# Altium schematic symbol library P-Channel FET.SchLib: 63 symbols (part 1 of 2)
Pins are listed as number, name and electrical type; pins without a type are passive.

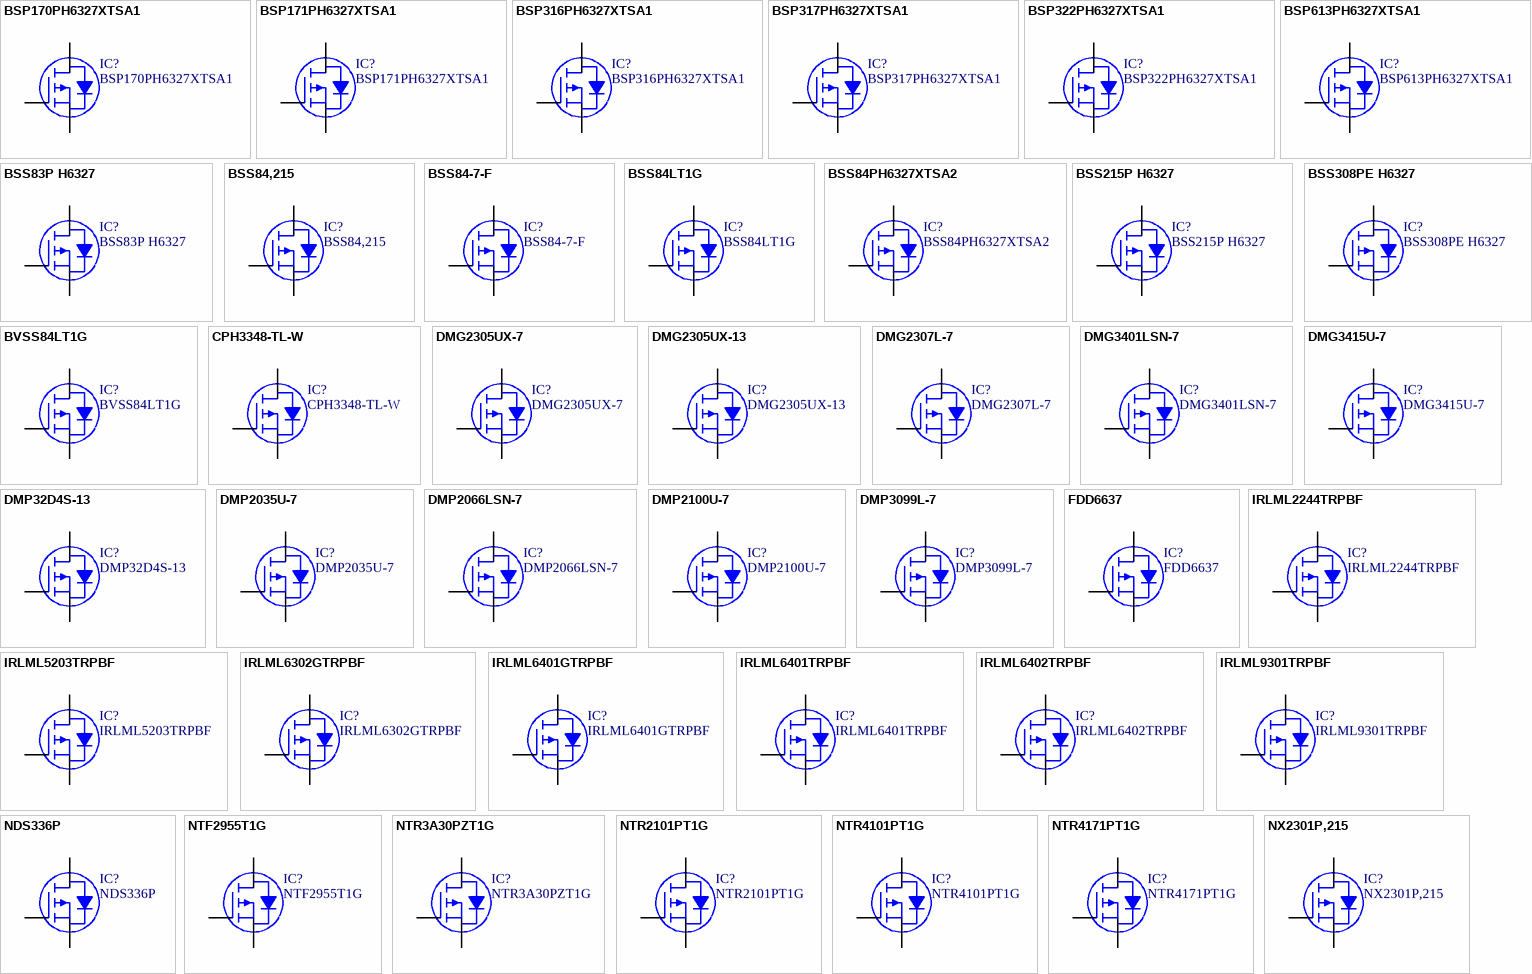
[diagram p0: symbols BSP170PH6327XTSA1 to NX2301P,215]

## BSP170PH6327XTSA1
designator IC?
MOSFET P-CH 60V 1.9A SOT223; Manufacturer: Infineon Technologies; Rds On (Max) at Id, Vgs: 300 mOhm @ 1.9A, 10V; Vgs(th) (Max) at Id: 4V @ 250uA; Gate Charge (Qg): 14nC @ 10V; Input Capacitance (Ciss) at Vds: 410pF @ 25V; Power - Max: 1.8W; Current Continuous Drain: 1.9A (Ta); Part Number: BSP170PH6327XTSA1; PartId: 8201; Supplier 1: Digi-Key; Supplier Part Number 1: BSP170PH6327XTSA1TR-ND; ComponentLink1Description: Datasheet; ComponentLink1URL: http://www.infineon.com/dgdl/Infineon-BSP170P-DS-v02_53-en.pdf?fileId=db3a30433b47825b013b5fdad470576f; ComponentLink2Description: Digi-Key Listing; ComponentLink2URL: http://www.digikey.com/product-detail/en/BSP170PH6327XTSA1/BSP170PH6327XTSA1TR-ND/5410105; Price: 0.2648; Type: MOSFET P-Channel, Metal Oxide; Device Package: TO-261-4, TO-261AA; Drain to Source Voltage (Vdss): 60V; Features: Standard
footprint INFINEON SOT-223
pins: 1 G, 2 D, 3 S, 4 D

## BSP171PH6327XTSA1
designator IC?
MOSFET P-CH 60V 1.9A SOT223; Manufacturer: Infineon Technologies; Rds On (Max) at Id, Vgs: 300 mOhm @ 1.9A, 10V; Vgs(th) (Max) at Id: 2V @ 460uA; Gate Charge (Qg): 20nC @ 10V; Input Capacitance (Ciss) at Vds: 460pF @ 25V; Power - Max: 1.8W; Current Continuous Drain: 1.9A (Ta); Part Number: BSP171PH6327XTSA1; PartId: 8200; Supplier 1: Digi-Key; Supplier Part Number 1: BSP171PH6327XTSA1TR-ND; ComponentLink1Description: Datasheet; ComponentLink1URL: http://www.infineon.com/dgdl/Infineon-BSP171P-DS-v02_07-en.pdf?fileId=db3a30433b47825b013b6004f59a57fa; ComponentLink2Description: Digi-Key Listing; ComponentLink2URL: http://www.digikey.com/product-detail/en/BSP171PH6327XTSA1/BSP171PH6327XTSA1TR-ND/5410106; Price: 0.2569; Type: MOSFET P-Channel, Metal Oxide; Device Package: TO-261-4, TO-261AA; Drain to Source Voltage (Vdss): 60V; Features: Logic Level Gate
footprint INFINEON SOT-223
pins: 1 G, 2 D, 3 S, 4 D

## BSP316PH6327XTSA1
designator IC?
MOSFET P-CH 100V 0.68A SOT223; Manufacturer: Infineon Technologies; Rds On (Max) at Id, Vgs: 1.8 Ohm @ 680mA, 10V; Vgs(th) (Max) at Id: 2V @ 170uA; Gate Charge (Qg): 6.4nC @ 10V; Input Capacitance (Ciss) at Vds: 146pF @ 25V; Power - Max: 1.8W; Current Continuous Drain: 680mA (Ta); Part Number: BSP316PH6327XTSA1; PartId: 8199; Supplier 1: Digi-Key; Supplier Part Number 1: BSP316PH6327XTSA1TR-ND; ComponentLink1Description: Datasheet; ComponentLink1URL: http://www.infineon.com/dgdl/Infineon-BSP316P-DS-v01_08-en.pdf?fileId=db3a30433b47825b013b603f524159c2; ComponentLink2Description: Digi-Key Listing; ComponentLink2URL: http://www.digikey.com/product-detail/en/BSP316PH6327XTSA1/BSP316PH6327XTSA1TR-ND/5410112; Price: 0.242; Type: MOSFET P-Channel, Metal Oxide; Device Package: TO-261-4, TO-261AA; Drain to Source Voltage (Vdss): 100V; Features: Logic Level Gate
footprint INFINEON SOT-223
pins: 1 G, 2 D, 3 S, 4 D

## BSP317PH6327XTSA1
designator IC?
MOSFET P-CH 250V 0.43A SOT223; Manufacturer: Infineon Technologies; Rds On (Max) at Id, Vgs: 4 Ohm @ 430mA, 10V; Vgs(th) (Max) at Id: 2V @ 370uA; Gate Charge (Qg): 15.1nC @ 10V; Input Capacitance (Ciss) at Vds: 262pF @ 25V; Power - Max: 1.8W; Current Continuous Drain: 430mA (Ta); Part Number: BSP317PH6327XTSA1; PartId: 8203; Supplier 1: Digi-Key; Supplier Part Number 1: BSP317PH6327XTSA1TR-ND; ComponentLink1Description: Datasheet; ComponentLink1URL: http://www.infineon.com/dgdl/Infineon-BSP317P-DS-v02_04-en.pdf?fileId=db3a30433b47825b013b604df1d959f2; ComponentLink2Description: Digi-Key Listing; ComponentLink2URL: http://www.digikey.com/product-detail/en/BSP317PH6327XTSA1/BSP317PH6327XTSA1TR-ND/5410113; Price: 0.2904; Type: MOSFET P-Channel, Metal Oxide; Device Package: TO-261-4, TO-261AA; Drain to Source Voltage (Vdss): 250V; Features: Logic Level Gate
footprint INFINEON SOT-223
pins: 1 G, 2 D, 3 S, 4 D

## BSP322PH6327XTSA1
designator IC?
MOSFET P-CH 100V 1A SOT-223; Manufacturer: Infineon Technologies; Rds On (Max) at Id, Vgs: 800 mOhm @ 1A, 10V; Vgs(th) (Max) at Id: 1V @ 380uA; Gate Charge (Qg): 16.5nC @ 10V; Input Capacitance (Ciss) at Vds: 372pF @ 25V; Power - Max: 1.8W; Current Continuous Drain: 1A (Tc); Part Number: BSP322PH6327XTSA1; PartId: 8202; Supplier 1: Digi-Key; Supplier Part Number 1: BSP322PH6327XTSA1TR-ND; ComponentLink1Description: Datasheet; ComponentLink1URL: http://www.infineon.com/dgdl/Infineon-BSP322P-DS-v01_06-en.pdf?fileId=db3a30433b47825b013b60a022246d9c; ComponentLink2Description: Digi-Key Listing; ComponentLink2URL: http://www.digikey.com/product-detail/en/BSP322PH6327XTSA1/BSP322PH6327XTSA1TR-ND/5410114; Price: 0.2881; Type: MOSFET P-Channel, Metal Oxide; Device Package: TO-261-4, TO-261AA; Drain to Source Voltage (Vdss): 100V; Features: Logic Level Gate
footprint INFINEON SOT-223
pins: 1 G, 2 D, 3 S, 4 D

## BSP613PH6327XTSA1
designator IC?
MOSFET P-CH 60V 2.9A SOT-223; Manufacturer: Infineon Technologies; Rds On (Max) at Id, Vgs: 130 mOhm @ 2.9A, 10V; Vgs(th) (Max) at Id: 4V @ 1mA; Gate Charge (Qg): 33nC @ 10V; Input Capacitance (Ciss) at Vds: 875pF @ 25V; Power - Max: 1.8W; Current Continuous Drain: 2.9A (Ta); Part Number: BSP613PH6327XTSA1; PartId: 8204; Supplier 1: Digi-Key; Supplier Part Number 1: BSP613PH6327XTSA1CT-ND; ComponentLink1Description: Datasheet; ComponentLink1URL: http://www.infineon.com/dgdl/Infineon-BSP613P-DS-v02_07-en.pdf?fileId=db3a30433b47825b013b60ac86a96dc0; ComponentLink2Description: Digi-Key Listing; ComponentLink2URL: http://www.digikey.com/product-detail/en/BSP613PH6327XTSA1/BSP613PH6327XTSA1CT-ND/5409996; Price: 0.99; Type: MOSFET P-Channel, Metal Oxide; Device Package: TO-261-4, TO-261AA; Drain to Source Voltage (Vdss): 60V; Features: Standard
footprint INFINEON SOT-223
pins: 1 G, 2 D, 3 S, 4 D

## BSS83P H6327
designator IC?
MOSFET P-CH 60V 0.33A SOT23; Manufacturer: Infineon Technologies; Rds On (Max) at Id, Vgs: 2 Ohm @ 330mA, 10V; Vgs(th) (Max) at Id: 2V @ 80uA; Gate Charge (Qg): 3.57nC @ 10V; Input Capacitance (Ciss) at Vds: 78pF @ 25V; Power - Max: 360mW; Current Continuous Drain: 330mA (Ta); Part Number: BSS83P H6327; PartId: 8162; Supplier 1: Digi-Key; Supplier Part Number 1: BSS83P H6327TR-ND; ComponentLink1Description: Datasheet; ComponentLink1URL: http://media.digikey.com/pdf/Data%20Sheets/Infineon%20PDFs/BSS83P%20H6327.pdf; ComponentLink2Description: Digi-Key Listing; ComponentLink2URL: http://www.digikey.com/product-detail/en/BSS83P%20H6327/BSS83P%20H6327TR-ND/2783473; Price: 0.062; Type: MOSFET P-Channel, Metal Oxide; Device Package: TO-236-3, SC-59, SOT-23-3; Drain to Source Voltage (Vdss): 60V; Features: Logic Level Gate
footprint INFINEON SOT-23-3
pins: 1 G, 2 D, 3 S

## BSS84,215
designator IC?
MOSFET P-CH 50V 130MA SOT-23; Manufacturer: NXP Semiconductors; Rds On (Max) at Id, Vgs: 10 Ohm @ 130mA, 10V; Vgs(th) (Max) at Id: 2V @ 1mA; Input Capacitance (Ciss) at Vds: 45pF @ 25V; Power - Max: 250mW; Current Continuous Drain: 130mA (Ta); Part Number: BSS84,215; PartId: 8178; Supplier 1: Digi-Key; Supplier Part Number 1: 568-1660-2-ND; ComponentLink1Description: Datasheet; ComponentLink1URL: http://www.nxp.com/documents/data_sheet/BSS84.pdf; ComponentLink2Description: Digi-Key Listing; ComponentLink2URL: http://www.digikey.com/product-detail/en/BSS84,215/568-1660-2-ND/763264; Price: 0.065; Type: MOSFET P-Channel, Metal Oxide; Device Package: TO-236-3, SC-59, SOT-23-3; Gate Charge (Qg): -; Drain to Source Voltage (Vdss): 50V; Features: Logic Level Gate
footprint NXP SOT-23-3 TO-236AB
pins: 1 G, 2 D, 3 S

## BSS84-7-F
designator IC?
MOSFET P-CH 50V 130MA SOT23-3; Manufacturer: Diodes Incorporated; Rds On (Max) at Id, Vgs: 10 Ohm @ 100mA, 5V; Vgs(th) (Max) at Id: 2V @ 1mA; Input Capacitance (Ciss) at Vds: 45pF @ 25V; Power - Max: 300mW; Current Continuous Drain: 130mA (Ta); Part Number: BSS84-7-F; PartId: 8183; Supplier 1: Digi-Key; Supplier Part Number 1: BSS84-FDITR-ND; ComponentLink1Description: Datasheet; ComponentLink1URL: http://www.diodes.com/_files/datasheets/ds30149.pdf; ComponentLink2Description: Digi-Key Listing; ComponentLink2URL: http://www.digikey.com/product-detail/en/BSS84-7-F/BSS84-FDITR-ND/717724; Price: 0.0632; Type: MOSFET P-Channel, Metal Oxide; Device Package: TO-236-3, SC-59, SOT-23-3; Gate Charge (Qg): -; Drain to Source Voltage (Vdss): 50V; Features: Standard
footprint DIODES SOT-23-3
pins: 1 G, 2 D, 3 S

## BSS84LT1G
designator IC?
MOSFET P-CH 50V 130MA SOT-23; Manufacturer: ON Semiconductor; Rds On (Max) at Id, Vgs: 10 Ohm @ 100mA, 5V; Vgs(th) (Max) at Id: 2V @ 250uA; Input Capacitance (Ciss) at Vds: 30pF @ 5V; Power - Max: 225mW; Current Continuous Drain: 130mA (Ta); Part Number: BSS84LT1G; PartId: 8197; Supplier 1: Digi-Key; Supplier Part Number 1: BSS84LT1GOSTR-ND; ComponentLink1Description: Datasheet; ComponentLink1URL: http://www.onsemi.com/pub_link/Collateral/BSS84LT1-D.PDF; ComponentLink2Description: Digi-Key Listing; ComponentLink2URL: http://www.digikey.com/product-detail/en/BSS84LT1G/BSS84LT1GOSTR-ND/918377; Price: 0.0586; Type: MOSFET P-Channel, Metal Oxide; Device Package: TO-236-3, SC-59, SOT-23-3; Gate Charge (Qg): -; Drain to Source Voltage (Vdss): 50V; Features: Standard
footprint ON SEMI SOT-23-3
pins: 1 G, 2 D, 3 S

## BSS84PH6327XTSA2
designator IC?
MOSFET P-CH 60V 170MA SOT-23; Manufacturer: Infineon Technologies; Rds On (Max) at Id, Vgs: 8 Ohm @ 170mA, 10V; Vgs(th) (Max) at Id: 2V @ 20uA; Gate Charge (Qg): 1.5nC @ 10V; Input Capacitance (Ciss) at Vds: 19pF @ 25V; Power - Max: 360mW; Current Continuous Drain: 170mA (Ta); Part Number: BSS84PH6327XTSA2; PartId: 8161; Supplier 1: Digi-Key; Supplier Part Number 1: BSS84PH6327XTSA2TR-ND; ComponentLink1Description: Datasheet; ComponentLink1URL: http://www.infineon.com/dgdl/Infineon-BSS84P-DS-v02_07-en.pdf?fileId=db3a304330f68606013118ac7a9b4549; ComponentLink2Description: Digi-Key Listing; ComponentLink2URL: http://www.digikey.com/product-detail/en/BSS84PH6327XTSA2/BSS84PH6327XTSA2TR-ND/5413661; Price: 0.042; Type: MOSFET P-Channel, Metal Oxide; Device Package: TO-236-3, SC-59, SOT-23-3; Drain to Source Voltage (Vdss): 60V; Features: Logic Level Gate
footprint INFINEON SOT-23-3
pins: 1 G, 2 D, 3 S

## BSS215P H6327
designator IC?
MOSFET P-CH 20V 1.5A SOT23; Manufacturer: Infineon Technologies; Rds On (Max) at Id, Vgs: 150 mOhm @ 1.5A, 4.5V; Vgs(th) (Max) at Id: 600mV @ 11uA; Gate Charge (Qg): 3.6nC @ 4.5V; Input Capacitance (Ciss) at Vds: 346pF @ 15V; Power - Max: 500mW; Current Continuous Drain: 1.5A (Ta); Part Number: BSS215P H6327; PartId: 8169; Supplier 1: Digi-Key; Supplier Part Number 1: BSS215P H6327TR-ND; ComponentLink1Description: Datasheet; ComponentLink1URL: http://www.infineon.com/dgdl/BSS215P_Rev2.3.pdf?folderId=db3a304314dca38901154a72e3951a65&fileId=db3a304330f6860601311833f57144fb; ComponentLink2Description: Digi-Key Listing; ComponentLink2URL: http://www.digikey.com/product-detail/en/BSS215P%20H6327/BSS215P%20H6327TR-ND/2783464; Price: 0.0838; Type: MOSFET P-Channel, Metal Oxide; Device Package: TO-236-3, SC-59, SOT-23-3; Drain to Source Voltage (Vdss): 20V; Features: Logic Level Gate, 2.5V Drive
footprint INFINEON SOT-23-3
pins: 1 G, 2 D, 3 S

## BSS308PE H6327
designator IC?
MOSFET P-CH 30V 2A SOT23; Manufacturer: Infineon Technologies; Rds On (Max) at Id, Vgs: 80 mOhm @ 2A, 10V; Vgs(th) (Max) at Id: 1V @ 11uA; Gate Charge (Qg): 5nC @ 10V; Input Capacitance (Ciss) at Vds: 500pF @ 15V; Power - Max: 500mW; Current Continuous Drain: 2A (Ta); Part Number: BSS308PE H6327; PartId: 8163; Supplier 1: Digi-Key; Supplier Part Number 1: BSS308PE H6327TR-ND; ComponentLink1Description: Datasheet; ComponentLink1URL: http://www.infineon.com/dgdl/BSS308PE_Rev2.03.pdf?folderId=db3a304314dca38901154a72e3951a65&fileId=db3a304330f686060131099c80400073; ComponentLink2Description: Digi-Key Listing; ComponentLink2URL: http://www.digikey.com/product-detail/en/BSS308PE%20H6327/BSS308PE%20H6327TR-ND/2783466; Price: 0.0819; Type: MOSFET P-Channel, Metal Oxide; Device Package: TO-236-3, SC-59, SOT-23-3; Drain to Source Voltage (Vdss): 30V; Features: Logic Level Gate, 4.5V Drive
footprint INFINEON SOT-23-3
pins: 1 G, 2 D, 3 S

## BVSS84LT1G
designator IC?
MOSFET P-CH 50V 130MA SOT-23-3; Manufacturer: ON Semiconductor; Rds On (Max) at Id, Vgs: 10 Ohm @ 100mA, 5V; Vgs(th) (Max) at Id: 2V @ 250uA; Gate Charge (Qg): 2.2nC @ 10V; Input Capacitance (Ciss) at Vds: 36pF @ 5V; Power - Max: 225mW; Current Continuous Drain: 130mA (Ta); Part Number: BVSS84LT1G; PartId: 8198; Supplier 1: Digi-Key; Supplier Part Number 1: BVSS84LT1GOSTR-ND; ComponentLink1Description: Datasheet; ComponentLink1URL: http://www.onsemi.com/pub_link/Collateral/BSS84LT1-D.PDF; ComponentLink2Description: Digi-Key Listing; ComponentLink2URL: http://www.digikey.com/product-detail/en/BVSS84LT1G/BVSS84LT1GOSTR-ND/3062044; Price: 0.0674; Type: MOSFET P-Channel, Metal Oxide; Device Package: TO-236-3, SC-59, SOT-23-3; Drain to Source Voltage (Vdss): 50V; Features: Standard
footprint ON SEMI SOT-23-3
pins: 1 G, 2 D, 3 S

## CPH3348-TL-W
designator IC?
MOSFET P-CH 12V 3A CPH3; Manufacturer: ON Semiconductor; Rds On (Max) at Id, Vgs: 70 mOhm @ 1.5A, 4.5V; Vgs(th) (Max) at Id: 1.4V @ 1mA; Gate Charge (Qg): 5.6nC @ 4.5V; Input Capacitance (Ciss) at Vds: 405pF @ 6V; Power - Max: 1W; Current Continuous Drain: 3A (Ta); Part Number: CPH3348-TL-W; PartId: 8194; Supplier 1: Digi-Key; Supplier Part Number 1: CPH3348-TL-WOSTR-ND; ComponentLink1Description: Datasheet; ComponentLink1URL: http://www.onsemi.com/pub_link/Collateral/CPH3348-D.PDF; ComponentLink2Description: Digi-Key Listing; ComponentLink2URL: http://www.digikey.com/product-detail/en/CPH3348-TL-W/CPH3348-TL-WOSTR-ND/5698149; Price: 0.1196; Type: MOSFET P-Channel, Metal Oxide; Device Package: TO-236-3, SC-59, SOT-23-3; Drain to Source Voltage (Vdss): 12V; Features: Logic Level Gate, 1.8V Drive
footprint ON SEMI SOT-23-3
pins: 1 G, 2 D, 3 S

## DMG2305UX-7
designator IC?
MOSFET P-CH 20V 4.2A SOT23; Manufacturer: Diodes Incorporated; Rds On (Max) at Id, Vgs: 52 mOhm @ 4.2A, 4.5V; Vgs(th) (Max) at Id: 900mV @ 250uA; Gate Charge (Qg): 10.2nC @ 4.5V; Input Capacitance (Ciss) at Vds: 808pF @ 15V; Power - Max: 1.4W; Current Continuous Drain: 4.2A (Ta); Part Number: DMG2305UX-7; PartId: 8184; Supplier 1: Digi-Key; Supplier Part Number 1: DMG2305UX-7DITR-ND; ComponentLink1Description: Datasheet; ComponentLink1URL: http://www.diodes.com/_files/datasheets/DMG2305UX.pdf; ComponentLink2Description: Digi-Key Listing; ComponentLink2URL: http://www.digikey.com/product-detail/en/DMG2305UX-7/DMG2305UX-7DITR-ND/4340667; Price: 0.0646; Type: MOSFET P-Channel, Metal Oxide; Device Package: TO-236-3, SC-59, SOT-23-3; Drain to Source Voltage (Vdss): 20V; Features: Standard
footprint DIODES SOT-23-3
pins: 1 G, 2 D, 3 S

## DMG2305UX-13
designator IC?
MOSFET P-CH 20V 4.2A SOT23; Manufacturer: Diodes Incorporated; Rds On (Max) at Id, Vgs: 52 mOhm @ 4.2A, 4.5V; Vgs(th) (Max) at Id: 900mV @ 250uA; Gate Charge (Qg): 10.2nC @ 4.5V; Input Capacitance (Ciss) at Vds: 808pF @ 15V; Power - Max: 1.4W; Current Continuous Drain: 4.2A (Ta); Part Number: DMG2305UX-13; PartId: 8181; Supplier 1: Digi-Key; Supplier Part Number 1: DMG2305UX-13DITR-ND; ComponentLink1Description: Datasheet; ComponentLink1URL: http://www.diodes.com/_files/datasheets/DMG2305UX.pdf; ComponentLink2Description: Digi-Key Listing; ComponentLink2URL: http://www.digikey.com/product-detail/en/DMG2305UX-13/DMG2305UX-13DITR-ND/4251560; Price: 0.0477; Type: MOSFET P-Channel, Metal Oxide; Device Package: TO-236-3, SC-59, SOT-23-3; Drain to Source Voltage (Vdss): 20V; Features: Standard
footprint DIODES SOT-23-3
pins: 1 G, 2 D, 3 S

## DMG2307L-7
designator IC?
MOSFET P-CH 30V 2.5A SOT-23; Manufacturer: Diodes Incorporated; Rds On (Max) at Id, Vgs: 90 mOhm @ 2.5A, 10V; Vgs(th) (Max) at Id: 3V @ 250uA; Gate Charge (Qg): 8.2nC @ 10V; Input Capacitance (Ciss) at Vds: 371.3pF @ 15V; Power - Max: 760mW; Current Continuous Drain: 2.5A (Ta); Part Number: DMG2307L-7; PartId: 8187; Supplier 1: Digi-Key; Supplier Part Number 1: DMG2307L-7DITR-ND; ComponentLink1Description: Datasheet; ComponentLink1URL: http://www.diodes.com/_files/datasheets/DMG2307L.pdf; ComponentLink2Description: Digi-Key Listing; ComponentLink2URL: http://www.digikey.com/product-detail/en/DMG2307L-7/DMG2307L-7DITR-ND/2756043; Price: 0.081; Type: MOSFET P-Channel, Metal Oxide; Device Package: TO-236-3, SC-59, SOT-23-3; Drain to Source Voltage (Vdss): 30V; Features: Standard
footprint DIODES SOT-23-3
pins: 1 G, 2 D, 3 S

## DMG3401LSN-7
designator IC?
MOSFET P-CH 30V 3A SC59; Manufacturer: Diodes Incorporated; Rds On (Max) at Id, Vgs: 50 mOhm @ 4A, 10V; Vgs(th) (Max) at Id: 1.3V @ 250uA; Gate Charge (Qg): 25.1nC @ 10V; Input Capacitance (Ciss) at Vds: 1326pF @ 15V; Power - Max: 800mW; Current Continuous Drain: 3A (Ta); Part Number: DMG3401LSN-7; PartId: 8191; Supplier 1: Digi-Key; Supplier Part Number 1: DMG3401LSN-7DITR-ND; ComponentLink1Description: Datasheet; ComponentLink1URL: http://www.diodes.com/_files/datasheets/DMG3401LSN.pdf; ComponentLink2Description: Digi-Key Listing; ComponentLink2URL: http://www.digikey.com/product-detail/en/DMG3401LSN-7/DMG3401LSN-7DITR-ND/3720138; Price: 0.085; Type: MOSFET P-Channel, Metal Oxide; Device Package: TO-236-3, SC-59, SOT-23-3; Drain to Source Voltage (Vdss): 30V; Features: Standard
footprint DIODES SOT-23-3
pins: 1 G, 2 D, 3 S

## DMG3415U-7
designator IC?
MOSFET P-CH 20V 4A SOT-23; Manufacturer: Diodes Incorporated; Rds On (Max) at Id, Vgs: 39 mOhm @ 4A, 4.5V; Vgs(th) (Max) at Id: 1V @ 250uA; Gate Charge (Qg): 9.1nC @ 4.5V; Input Capacitance (Ciss) at Vds: 294pF @ 10V; Power - Max: 900mW; Current Continuous Drain: 4A (Ta); Part Number: DMG3415U-7; PartId: 8189; Supplier 1: Digi-Key; Supplier Part Number 1: DMG3415UDITR-ND; ComponentLink1Description: Datasheet; ComponentLink1URL: http://www.diodes.com/_files/datasheets/ds31735.pdf; ComponentLink2Description: Digi-Key Listing; ComponentLink2URL: http://www.digikey.com/product-detail/en/DMG3415U-7/DMG3415UDITR-ND/2052768; Price: 0.155; Type: MOSFET P-Channel, Metal Oxide; Device Package: TO-236-3, SC-59, SOT-23-3; Drain to Source Voltage (Vdss): 20V; Features: Standard
footprint DIODES SOT-23-3
pins: 1 G, 2 D, 3 S

## DMP32D4S-13
designator IC?
MOSFET P-CH 30V 300MA SOT23; Manufacturer: Diodes Incorporated; Rds On (Max) at Id, Vgs: 2.4 Ohm @ 300mA, 10V; Vgs(th) (Max) at Id: 2.4V @ 250uA; Gate Charge (Qg): 0.6nC @ 4.5V; Input Capacitance (Ciss) at Vds: 51.16pF @ 15V; Power - Max: 370mW; Current Continuous Drain: 300mA (Ta); Part Number: DMP32D4S-13; PartId: 8185; Supplier 1: Digi-Key; Supplier Part Number 1: DMP32D4S-13DITR-ND; ComponentLink1Description: Datasheet; ComponentLink1URL: http://www.diodes.com/_files/datasheets/DMP32D4S.pdf; ComponentLink2Description: Digi-Key Listing; ComponentLink2URL: http://www.digikey.com/product-detail/en/DMP32D4S-13/DMP32D4S-13DITR-ND/4251565; Price: 0.0717; Type: MOSFET P-Channel, Metal Oxide; Device Package: TO-236-3, SC-59, SOT-23-3; Drain to Source Voltage (Vdss): 30V; Features: Standard
footprint DIODES SOT-23-3
pins: 1 G, 2 D, 3 S

## DMP2035U-7
designator IC?
MOSFET P-CH 20V 3.6A SOT-23; Manufacturer: Diodes Incorporated; Rds On (Max) at Id, Vgs: 35 mOhm @ 4A, 4.5V; Vgs(th) (Max) at Id: 1V @ 250uA; Gate Charge (Qg): 15.4nC @ 4.5V; Input Capacitance (Ciss) at Vds: 1610pF @ 10V; Power - Max: 810mW; Current Continuous Drain: 3.6A (Ta); Part Number: DMP2035U-7; PartId: 8188; Supplier 1: Digi-Key; Supplier Part Number 1: DMP2035U-7DITR-ND; ComponentLink1Description: Datasheet; ComponentLink1URL: http://www.diodes.com/_files/datasheets/ds31830.pdf; ComponentLink2Description: Digi-Key Listing; ComponentLink2URL: http://www.digikey.com/product-detail/en/DMP2035U-7/DMP2035U-7DITR-ND/2178761; Price: 0.09; Type: MOSFET P-Channel, Metal Oxide; Device Package: TO-236-3, SC-59, SOT-23-3; Drain to Source Voltage (Vdss): 20V; Features: Standard
footprint DIODES SOT-23-3
pins: 1 G, 2 D, 3 S

## DMP2066LSN-7
designator IC?
MOSFET P-CH 20V 4.6A SC59-3; Manufacturer: Diodes Incorporated; Rds On (Max) at Id, Vgs: 40 mOhm @ 4.6A, 4.5V; Vgs(th) (Max) at Id: 1.2V @ 250uA; Gate Charge (Qg): 10.1nC @ 4.5V; Input Capacitance (Ciss) at Vds: 820pF @ 15V; Power - Max: 1.25W; Current Continuous Drain: 4.6A (Ta); Part Number: DMP2066LSN-7; PartId: 8190; Supplier 1: Digi-Key; Supplier Part Number 1: DMP2066LSNDITR-ND; ComponentLink1Description: Datasheet; ComponentLink1URL: http://www.diodes.com/_files/datasheets/ds31467.pdf; ComponentLink2Description: Digi-Key Listing; ComponentLink2URL: http://www.digikey.com/product-detail/en/DMP2066LSN-7/DMP2066LSNDITR-ND/1964690; Price: 0.186; Type: MOSFET P-Channel, Metal Oxide; Device Package: TO-236-3, SC-59, SOT-23-3; Drain to Source Voltage (Vdss): 20V; Features: Standard
footprint DIODES SOT-23-3
pins: 1 G, 2 D, 3 S

## DMP2100U-7
designator IC?
MOSFET P CH 20V 4.3A SOT23; Manufacturer: Diodes Incorporated; Rds On (Max) at Id, Vgs: 38 mOhm @ 3.5A, 10V; Vgs(th) (Max) at Id: 1.4V @ 250uA; Gate Charge (Qg): 9.1nC @ 4.5V; Input Capacitance (Ciss) at Vds: 216pF @ 15V; Power - Max: 800mW; Current Continuous Drain: 4.3A (Ta); Part Number: DMP2100U-7; PartId: 8186; Supplier 1: Digi-Key; Supplier Part Number 1: DMP2100U-7TR-ND; ComponentLink1Description: Datasheet; ComponentLink1URL: http://www.diodes.com/_files/datasheets/DMP2100U.pdf; ComponentLink2Description: Digi-Key Listing; ComponentLink2URL: http://www.digikey.com/product-detail/en/DMP2100U-7/DMP2100U-7TR-ND/3829363; Price: 0.0726; Type: MOSFET P-Channel, Metal Oxide; Device Package: TO-236-3, SC-59, SOT-23-3; Drain to Source Voltage (Vdss): 20V; Features: Standard
footprint DIODES SOT-23-3
pins: 1 G, 2 D, 3 S

## DMP3099L-7
designator IC?
MOSFET P-CH 30V SOT23; Manufacturer: Diodes Incorporated; Rds On (Max) at Id, Vgs: 65 mOhm @ 3.8A, 10V; Vgs(th) (Max) at Id: 2.1V @ 250uA; Gate Charge (Qg): 5.2nC @ 4.5V; Input Capacitance (Ciss) at Vds: 563pF @ 25V; Power - Max: 1.08W; Current Continuous Drain: 3.8A (Ta); Part Number: DMP3099L-7; PartId: 8182; Supplier 1: Digi-Key; Supplier Part Number 1: DMP3099L-7DITR-ND; ComponentLink1Description: Datasheet; ComponentLink1URL: http://www.diodes.com/_files/datasheets/DMP3099L.pdf; ComponentLink2Description: Digi-Key Listing; ComponentLink2URL: http://www.digikey.com/product-detail/en/DMP3099L-7/DMP3099L-7DITR-ND/4471075; Price: 0.06; Type: MOSFET P-Channel, Metal Oxide; Device Package: TO-236-3, SC-59, SOT-23-3; Drain to Source Voltage (Vdss): 30V; Features: Standard
footprint DIODES SOT-23-3
pins: 1 G, 2 D, 3 S

## FDD6637
designator IC?
MOSFET P-CH 35V 13A DPAK; Manufacturer: ON Semiconductor; Rds On (Max) at Id, Vgs: 11.6 mOhm @ 14A, 10V; Vgs(th) (Max) at Id: 3V @ 250µA; Input Capacitance (Ciss) at Vds: 2370pF @ 20V; Power - Max: 57W; Current Continuous Drain: 13A (Ta), 55A (Tc); Part Number: FDD6637; Supplier 1: Digi-Key; Supplier Part Number 1: FDD6637TR-ND; ComponentLink1Description: Datasheet; ComponentLink1URL: https://www.onsemi.com/pub/Collateral/FDD6637-D.pdf; ComponentLink2Description: Digi-Key Listing; ComponentLink2URL: https://www.digikey.com/product-detail/en/on-semiconductor/FDD6637/FDD6637TR-ND/1922979; Price: 0.5; Type: MOSFET P-Channel, Metal Oxide; Device Package: TO-252-3, DPak (2 Leads + Tab), SC-63; Gate Charge (Qg): -; Drain to Source Voltage (Vdss): 35V; Features: Standard
footprint ON SEMI D-PAK (D-PAK, 3-Pads, Body 6.20x6.72mm (max), IPC Medium Density)
pins: 1 G, 2 D, 3 S

## IRLML2244TRPBF
designator IC?
MOSFET P-CH 20V 4.3A SOT23; Manufacturer: Infineon Technologies Americas Corp.; Rds On (Max) at Id, Vgs: 54 mOhm @ 4.3A, 4.5V; Vgs(th) (Max) at Id: 1.1V @ 10uA; Gate Charge (Qg): 6.9nC @ 4.5V; Input Capacitance (Ciss) at Vds: 570pF @ 16V; Power - Max: 1.3W; Current Continuous Drain: 4.3A (Ta); Part Number: IRLML2244TRPBF; PartId: 8166; Supplier 1: Digi-Key; Supplier Part Number 1: IRLML2244TRPBFTR-ND; ComponentLink1Description: Datasheet; ComponentLink1URL: http://www.irf.com/product-info/datasheets/data/irlml2244pbf.pdf; ComponentLink2Description: Digi-Key Listing; ComponentLink2URL: http://www.digikey.com/product-detail/en/IRLML2244TRPBF/IRLML2244TRPBFTR-ND/2639564; Price: 0.1303; Type: MOSFET P-Channel, Metal Oxide; Device Package: TO-236-3, SC-59, SOT-23-3; Drain to Source Voltage (Vdss): 20V; Features: Standard
footprint INFINEON SOT-23-3
pins: 1 G, 2 D, 3 S

## IRLML5203TRPBF
designator IC?
MOSFET P-CH 30V 3A SOT-23; Manufacturer: Infineon Technologies Americas Corp.; Rds On (Max) at Id, Vgs: 98 mOhm @ 3A, 10V; Vgs(th) (Max) at Id: 2.5V @ 250uA; Gate Charge (Qg): 14nC @ 10V; Input Capacitance (Ciss) at Vds: 510pF @ 25V; Power - Max: 1.25W; Current Continuous Drain: 3A (Ta); Part Number: IRLML5203TRPBF; PartId: 8168; Supplier 1: Digi-Key; Supplier Part Number 1: IRLML5203TRPBFTR-ND; ComponentLink1Description: Datasheet; ComponentLink1URL: http://www.irf.com/product-info/datasheets/data/irlml5203pbf.pdf; ComponentLink2Description: Digi-Key Listing; ComponentLink2URL: http://www.digikey.com/product-detail/en/IRLML5203TRPBF/IRLML5203TRPBFTR-ND/1928176; Price: 0.1006; Type: MOSFET P-Channel, Metal Oxide; Device Package: TO-236-3, SC-59, SOT-23-3; Drain to Source Voltage (Vdss): 30V; Features: Standard
footprint INFINEON SOT-23-3
pins: 1 G, 2 D, 3 S

## IRLML6302GTRPBF
designator IC?
MOSFET P-CH 20V 0.78A SOT-23-3; Manufacturer: Infineon Technologies Americas Corp.; Rds On (Max) at Id, Vgs: 600 mOhm @ 610mA, 4.5V; Vgs(th) (Max) at Id: 1.5V @ 250uA; Gate Charge (Qg): 3.6nC @ 4.5V; Input Capacitance (Ciss) at Vds: 97pF @ 15V; Power - Max: 540mW; Current Continuous Drain: 780mA (Ta); Part Number: IRLML6302GTRPBF; PartId: 8160; Supplier 1: Digi-Key; Supplier Part Number 1: IRLML6302GTRPBFTR-ND; ComponentLink1Description: Datasheet; ComponentLink1URL: http://www.irf.com/product-info/datasheets/data/irlml6302gpbf.pdf; ComponentLink2Description: Digi-Key Listing; ComponentLink2URL: http://www.digikey.com/product-detail/en/IRLML6302GTRPBF/IRLML6302GTRPBFTR-ND/2354143; Price: 0.1006; Type: MOSFET P-Channel, Metal Oxide; Device Package: TO-236-3, SC-59, SOT-23-3; Drain to Source Voltage (Vdss): 20V; Features: Standard
footprint INFINEON SOT-23-3
pins: 1 G, 2 D, 3 S

## IRLML6401GTRPBF
designator IC?
MOSFET P-CH 12V 4.3A SOT-23-3; Manufacturer: Infineon Technologies Americas Corp.; Rds On (Max) at Id, Vgs: 50 mOhm @ 4.3A, 4.5V; Vgs(th) (Max) at Id: 950mV @ 250uA; Gate Charge (Qg): 15nC @ 5V; Input Capacitance (Ciss) at Vds: 830pF @ 10V; Power - Max: 1.3W; Current Continuous Drain: 4.3A (Ta); Part Number: IRLML6401GTRPBF; PartId: 8165; Supplier 1: Digi-Key; Supplier Part Number 1: IRLML6401GTRPBFTR-ND; ComponentLink1Description: Datasheet; ComponentLink1URL: http://www.irf.com/product-info/datasheets/data/irlml6401gpbf.pdf; ComponentLink2Description: Digi-Key Listing; ComponentLink2URL: http://www.digikey.com/product-detail/en/IRLML6401GTRPBF/IRLML6401GTRPBFTR-ND/2354144; Price: 0.1303; Type: MOSFET P-Channel, Metal Oxide; Device Package: TO-236-3, SC-59, SOT-23-3; Drain to Source Voltage (Vdss): 12V; Features: Logic Level Gate, 1.8V Drive
footprint INFINEON SOT-23-3
pins: 1 G, 2 D, 3 S

## IRLML6401TRPBF
designator IC?
MOSFET P-CH 12V 4.3A SOT-23; Manufacturer: Infineon Technologies Americas Corp.; Rds On (Max) at Id, Vgs: 50 mOhm @ 4.3A, 4.5V; Vgs(th) (Max) at Id: 950mV @ 250uA; Gate Charge (Qg): 15nC @ 5V; Input Capacitance (Ciss) at Vds: 830pF @ 10V; Power - Max: 1.3W; Current Continuous Drain: 4.3A (Ta); Part Number: IRLML6401TRPBF; PartId: 8158; Supplier 1: Digi-Key; Supplier Part Number 1: IRLML6401PBFTR-ND; ComponentLink1Description: Datasheet; ComponentLink1URL: http://www.irf.com/product-info/datasheets/data/irlml6401pbf.pdf; ComponentLink2Description: Digi-Key Listing; ComponentLink2URL: http://www.digikey.com/product-detail/en/IRLML6401TRPBF/IRLML6401PBFTR-ND/811442; Price: 0.1254; Type: MOSFET P-Channel, Metal Oxide; Device Package: TO-236-3, SC-59, SOT-23-3; Drain to Source Voltage (Vdss): 12V; Features: Logic Level Gate, 1.8V Drive
footprint INFINEON SOT-23-3
pins: 1 G, 2 D, 3 S

## IRLML6402TRPBF
designator IC?
MOSFET P-CH 20V 3.7A SOT-23; Manufacturer: Infineon Technologies Americas Corp.; Rds On (Max) at Id, Vgs: 65 mOhm @ 3.7A, 4.5V; Vgs(th) (Max) at Id: 1.2V @ 250uA; Gate Charge (Qg): 12nC @ 5V; Input Capacitance (Ciss) at Vds: 633pF @ 10V; Power - Max: 1.3W; Current Continuous Drain: 3.7A (Ta); Part Number: IRLML6402TRPBF; PartId: 8159; Supplier 1: Digi-Key; Supplier Part Number 1: IRLML6402PBFTR-ND; ComponentLink1Description: Datasheet; ComponentLink1URL: http://www.irf.com/product-info/datasheets/data/irlml6402pbf.pdf; ComponentLink2Description: Digi-Key Listing; ComponentLink2URL: http://www.digikey.com/product-detail/en/IRLML6402TRPBF/IRLML6402PBFTR-ND/811437; Price: 0.0864; Type: MOSFET P-Channel, Metal Oxide; Device Package: TO-236-3, SC-59, SOT-23-3; Drain to Source Voltage (Vdss): 20V; Features: Standard
footprint INFINEON SOT-23-3
pins: 1 G, 2 D, 3 S

## IRLML9301TRPBF
designator IC?
MOSFET P-CH 30V 3.6A SOT-23-3; Manufacturer: Infineon Technologies Americas Corp.; Rds On (Max) at Id, Vgs: 64 mOhm @ 3.6A, 10V; Vgs(th) (Max) at Id: 2.4V @ 10uA; Gate Charge (Qg): 4.8nC @ 4.5V; Input Capacitance (Ciss) at Vds: 388pF @ 25V; Power - Max: 1.3W; Current Continuous Drain: 3.6A (Ta); Part Number: IRLML9301TRPBF; PartId: 8167; Supplier 1: Digi-Key; Supplier Part Number 1: IRLML9301TRPBFTR-ND; ComponentLink1Description: Datasheet; ComponentLink1URL: http://www.irf.com/product-info/datasheets/data/irlml9301pbf.pdf; ComponentLink2Description: Digi-Key Listing; ComponentLink2URL: http://www.digikey.com/product-detail/en/IRLML9301TRPBF/IRLML9301TRPBFTR-ND/2354146; Price: 0.1369; Type: MOSFET P-Channel, Metal Oxide; Device Package: TO-236-3, SC-59, SOT-23-3; Drain to Source Voltage (Vdss): 30V; Features: Standard
footprint INFINEON SOT-23-3
pins: 1 G, 2 D, 3 S

## NDS336P
designator IC?
MOSFET P-CH 20V 1.2A SSOT3; Manufacturer: ON Semiconductor; Rds On (Max) at Id, Vgs: 200 mOhm @ 1.3A, 4.5V; Vgs(th) (Max) at Id: 1V @ 250µA; Input Capacitance (Ciss) at Vds: 360pF @ 10V; Power - Max: 250mW; Current Continuous Drain: 1.2A (Ta); Part Number: NDS336P; Supplier 1: Digi-Key; Supplier Part Number 1: NDS336PCT-ND; ComponentLink1Description: Datasheet; ComponentLink1URL: https://media.digikey.com/pdf/Data%20Sheets/Fairchild%20PDFs/NDS336P.pdf; ComponentLink2Description: Digi-Key Listing; ComponentLink2URL: https://www.digikey.com/product-detail/en/on-semiconductor/NDS336P/NDS336PCT-ND/965711; Price: 0.065; Type: MOSFET P-Channel, Metal Oxide; Device Package: TO-236-3, SC-59, SOT-23-3; Gate Charge (Qg): -; Drain to Source Voltage (Vdss): 20V; Features: Logic Level Gate
footprint NXP SOT-23-3 TO-236AB
pins: 1 G, 2 D, 3 S

## NTF2955T1G
designator IC?
MOSFET P-CH 60V 1.7A SOT-223; Manufacturer: ON Semiconductor; Rds On (Max) at Id, Vgs: 185 mOhm @ 2.4A, 10V; Vgs(th) (Max) at Id: 4V @ 1mA; Gate Charge (Qg): 14.3nC @ 10V; Input Capacitance (Ciss) at Vds: 492pF @ 25V; Power - Max: 1W; Current Continuous Drain: 1.7A (Ta); Part Number: NTF2955T1G; PartId: 8219; Supplier 1: Digi-Key; Supplier Part Number 1: NTF2955T1GOSTR-ND; ComponentLink1Description: Datasheet; ComponentLink1URL: http://www.onsemi.com/pub_link/Collateral/NTF2955-D.PDF; ComponentLink2Description: Digi-Key Listing; ComponentLink2URL: http://www.digikey.com/product-detail/en/NTF2955T1G/NTF2955T1GOSTR-ND/1749071; Price: 0.3312; Type: MOSFET P-Channel, Metal Oxide; Device Package: TO-261-4, TO-261AA; Drain to Source Voltage (Vdss): 60V; Features: Standard
footprint ON SEMI SOT-223 ST(318H)
pins: 1 G, 2 D, 3 S, 4 D

## NTR3A30PZT1G
designator IC?
MOSFET P-CH 20V 3A SOT23; Manufacturer: ON Semiconductor; Rds On (Max) at Id, Vgs: 38 mOhm @ 3A, 4.5V; Vgs(th) (Max) at Id: 1V @ 250uA; Gate Charge (Qg): 17.6nC @ 4.5V; Input Capacitance (Ciss) at Vds: 1651pF @ 15V; Power - Max: 480mW; Current Continuous Drain: 3A (Ta); Part Number: NTR3A30PZT1G; PartId: 8192; Supplier 1: Digi-Key; Supplier Part Number 1: NTR3A30PZT1GOSTR-ND; ComponentLink1Description: Datasheet; ComponentLink1URL: http://www.onsemi.com/pub_link/Collateral/NTR3A30PZ-D.PDF; ComponentLink2Description: Digi-Key Listing; ComponentLink2URL: http://www.digikey.com/product-detail/en/NTR3A30PZT1G/NTR3A30PZT1GOSTR-ND/4848848; Price: 0.2175; Type: MOSFET P-Channel, Metal Oxide; Device Package: TO-236-3, SC-59, SOT-23-3; Drain to Source Voltage (Vdss): 20V; Features: Standard
footprint ON SEMI SOT-23-3
pins: 1 G, 2 D, 3 S

## NTR2101PT1G
designator IC?
MOSFET P-CH 8V 3.7A SOT-23; Manufacturer: ON Semiconductor; Rds On (Max) at Id, Vgs: 52 mOhm @ 3.5A, 4.5V; Vgs(th) (Max) at Id: 1V @ 250uA; Gate Charge (Qg): 15nC @ 4.5V; Input Capacitance (Ciss) at Vds: 1173pF @ 4V; Power - Max: 960mW; Part Number: NTR2101PT1G; PartId: 8193; Supplier 1: Digi-Key; Supplier Part Number 1: NTR2101PT1GOSTR-ND; ComponentLink1Description: Datasheet; ComponentLink1URL: http://www.onsemi.com/pub_link/Collateral/NTR2101P-D.PDF; ComponentLink2Description: Digi-Key Listing; ComponentLink2URL: http://www.digikey.com/product-detail/en/NTR2101PT1G/NTR2101PT1GOSTR-ND/687095; Price: 0.0892; Type: MOSFET P-Channel, Metal Oxide; Device Package: TO-236-3, SC-59, SOT-23-3; Drain to Source Voltage (Vdss): 8V; Features: Standard; Current Continuous Drain: -
footprint ON SEMI SOT-23-3
pins: 1 G, 2 D, 3 S

## NTR4101PT1G
designator IC?
MOSFET P-CH 20V 1.8A SOT-23; Manufacturer: ON Semiconductor; Rds On (Max) at Id, Vgs: 85 mOhm @ 1.6A, 4.5V; Vgs(th) (Max) at Id: 1.2V @ 250uA; Gate Charge (Qg): 8.5nC @ 4.5V; Input Capacitance (Ciss) at Vds: 675pF @ 10V; Power - Max: 420mW; Current Continuous Drain: 1.8A (Ta); Part Number: NTR4101PT1G; PartId: 8196; Supplier 1: Digi-Key; Supplier Part Number 1: NTR4101PT1GOSTR-ND; ComponentLink1Description: Datasheet; ComponentLink1URL: http://www.onsemi.com/pub_link/Collateral/NTR4101P-D.PDF; ComponentLink2Description: Digi-Key Listing; ComponentLink2URL: http://www.digikey.com/product-detail/en/NTR4101PT1G/NTR4101PT1GOSTR-ND/687096; Price: 0.0848; Type: MOSFET P-Channel, Metal Oxide; Device Package: TO-236-3, SC-59, SOT-23-3; Drain to Source Voltage (Vdss): 20V; Features: Standard
footprint ON SEMI SOT-23-3
pins: 1 G, 2 D, 3 S

## NTR4171PT1G
designator IC?
MOSFET P-CH 30V 2.2A SOT23; Manufacturer: ON Semiconductor; Rds On (Max) at Id, Vgs: 75 mOhm @ 2.2A, 10V; Vgs(th) (Max) at Id: 1.4V @ 250uA; Gate Charge (Qg): 15.6nC @ 10V; Input Capacitance (Ciss) at Vds: 720pF @ 15V; Power - Max: 480mW; Current Continuous Drain: 2.2A (Ta); Part Number: NTR4171PT1G; PartId: 8195; Supplier 1: Digi-Key; Supplier Part Number 1: NTR4171PT1GOSTR-ND; ComponentLink1Description: Datasheet; ComponentLink1URL: http://www.onsemi.com/pub_link/Collateral/NTR4171P-D.PDF; ComponentLink2Description: Digi-Key Listing; ComponentLink2URL: http://www.digikey.com/product-detail/en/NTR4171PT1G/NTR4171PT1GOSTR-ND/2050558; Price: 0.1024; Type: MOSFET P-Channel, Metal Oxide; Device Package: TO-236-3, SC-59, SOT-23-3; Drain to Source Voltage (Vdss): 30V; Features: Standard
footprint ON SEMI SOT-23-3
pins: 1 G, 2 D, 3 S

## NX2301P,215
designator IC?
MOSFET P-CH 20V 2A TO-236AB; Manufacturer: NXP Semiconductors; Rds On (Max) at Id, Vgs: 120 mOhm @ 1A, 4.5V; Vgs(th) (Max) at Id: 1.1V @ 250uA; Gate Charge (Qg): 6nC @ 4.5V; Input Capacitance (Ciss) at Vds: 380pF @ 6V; Power - Max: 400mW; Current Continuous Drain: 2A (Ta); Part Number: NX2301P,215; PartId: 8179; Supplier 1: Digi-Key; Supplier Part Number 1: 568-10314-2-ND; ComponentLink1Description: Datasheet; ComponentLink1URL: http://www.nxp.com/documents/data_sheet/NX2301P.pdf; ComponentLink2Description: Digi-Key Listing; ComponentLink2URL: http://www.digikey.com/product-detail/en/NX2301P,215/568-10314-2-ND/2779960; Price: 0.072; Type: MOSFET P-Channel, Metal Oxide; Device Package: TO-236-3, SC-59, SOT-23-3; Drain to Source Voltage (Vdss): 20V; Features: Standard
footprint NXP SOT-23-3 TO-236AB
pins: 1 G, 2 D, 3 S

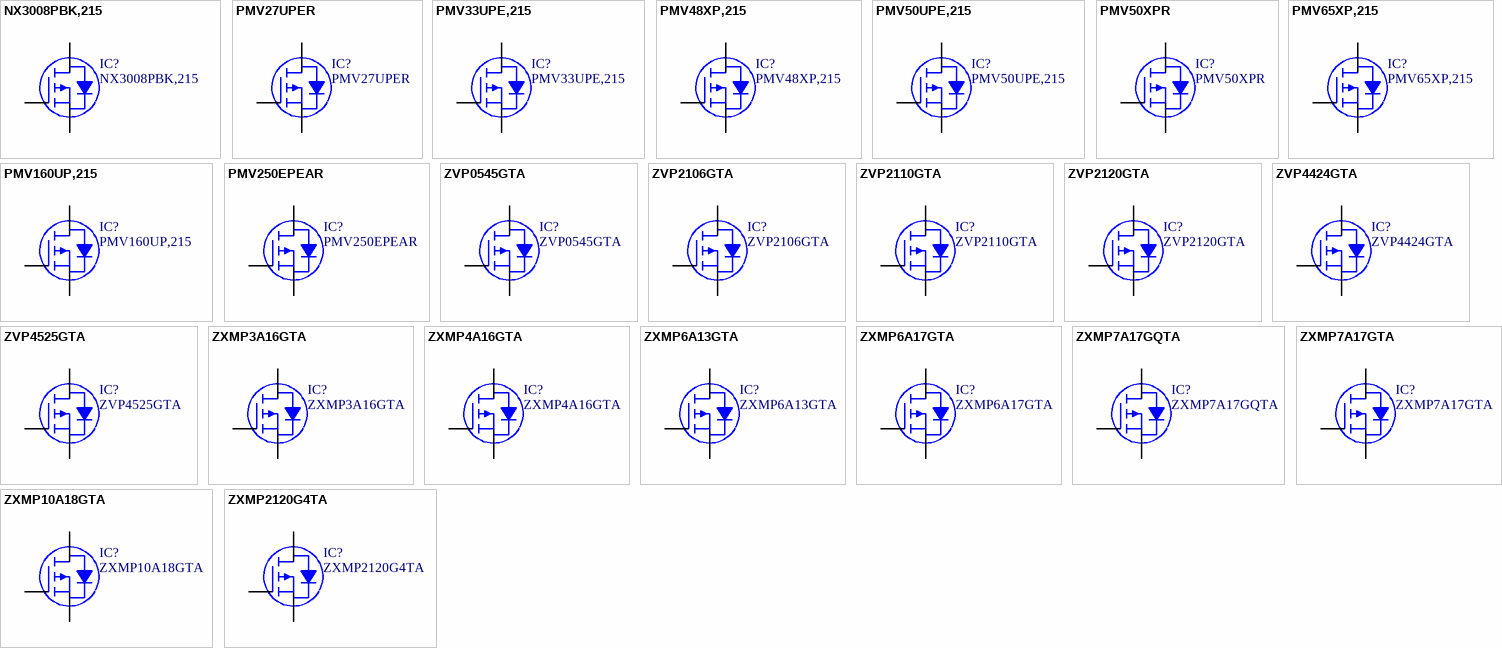
[diagram p1: symbols NX3008PBK,215 to ZXMP2120G4TA]

## NX3008PBK,215
designator IC?
MOSFET P-CH 30V TO-236AB; Manufacturer: NXP Semiconductors; Rds On (Max) at Id, Vgs: 4.1 Ohm @ 200mA, 4.5V; Vgs(th) (Max) at Id: 1.1V @ 250uA; Gate Charge (Qg): 0.72nC @ 4.5V; Input Capacitance (Ciss) at Vds: 46pF @ 15V; Power - Max: 350mW; Current Continuous Drain: 230mA (Ta); Part Number: NX3008PBK,215; PartId: 8177; Supplier 1: Digi-Key; Supplier Part Number 1: 568-10499-2-ND; ComponentLink1Description: Datasheet; ComponentLink1URL: http://www.nxp.com/documents/data_sheet/NX3008PBK.pdf; ComponentLink2Description: Digi-Key Listing; ComponentLink2URL: http://www.digikey.com/product-detail/en/NX3008PBK,215/568-10499-2-ND/2779972; Price: 0.0529; Type: MOSFET P-Channel, Metal Oxide; Device Package: TO-236-3, SC-59, SOT-23-3; Drain to Source Voltage (Vdss): 30V; Features: Standard
footprint NXP SOT-23-3 TO-236AB
pins: 1 G, 2 D, 3 S

## PMV27UPER
designator IC?
MOSFET P-CH 20V 4.5A; Manufacturer: NXP Semiconductors; Rds On (Max) at Id, Vgs: 32 mOhm @ 4.5A, 4.5V; Vgs(th) (Max) at Id: 950mV @ 250uA; Gate Charge (Qg): 22.1nC @ 4.5V; Input Capacitance (Ciss) at Vds: 1820pF @ 10V; Power - Max: 490mW; Current Continuous Drain: 4.5A (Ta); Part Number: PMV27UPER; PartId: 8170; Supplier 1: Digi-Key; Supplier Part Number 1: 568-12590-2-ND; ComponentLink1Description: Datasheet; ComponentLink1URL: http://www.nxp.com/documents/data_sheet/PMV27UPE.pdf; ComponentLink2Description: Digi-Key Listing; ComponentLink2URL: http://www.digikey.com/product-detail/en/PMV27UPER/568-12590-2-ND/5035801; Price: 0.1229; Type: MOSFET P-Channel, Metal Oxide; Device Package: TO-236-3, SC-59, SOT-23-3; Drain to Source Voltage (Vdss): 20V; Features: Standard
footprint NXP SOT-23-3 TO-236AB
pins: 1 G, 2 D, 3 S

## PMV33UPE,215
designator IC?
MOSFET P-CH 20V 4.4A TO-236AB; Manufacturer: NXP Semiconductors; Rds On (Max) at Id, Vgs: 36 mOhm @ 3A, 4.5V; Vgs(th) (Max) at Id: 950mV @ 250uA; Gate Charge (Qg): 22.1nC @ 4.5V; Input Capacitance (Ciss) at Vds: 1820pF @ 10V; Power - Max: 490mW; Current Continuous Drain: 4.4A (Ta); Part Number: PMV33UPE,215; PartId: 8171; Supplier 1: Digi-Key; Supplier Part Number 1: 568-10834-2-ND; ComponentLink1Description: Datasheet; ComponentLink1URL: http://www.nxp.com/documents/data_sheet/PMV33UPE.pdf; ComponentLink2Description: Digi-Key Listing; ComponentLink2URL: http://www.digikey.com/product-detail/en/PMV33UPE,215/568-10834-2-ND/3679493; Price: 0.2063; Type: MOSFET P-Channel, Metal Oxide; Device Package: TO-236-3, SC-59, SOT-23-3; Drain to Source Voltage (Vdss): 20V; Features: Standard
footprint NXP SOT-23-3 TO-236AB
pins: 1 G, 2 D, 3 S

## PMV48XP,215
designator IC?
MOSFET P-CH 20V 3.5A SOT23; Manufacturer: NXP Semiconductors; Rds On (Max) at Id, Vgs: 55 mOhm @ 2.4A, 4.5V; Vgs(th) (Max) at Id: 1.25V @ 250uA; Gate Charge (Qg): 11nC @ 4.5V; Input Capacitance (Ciss) at Vds: 1000pF @ 10V; Power - Max: 510mW; Current Continuous Drain: 3.5A (Ta); Part Number: PMV48XP,215; PartId: 8172; Supplier 1: Digi-Key; Supplier Part Number 1: 568-7579-2-ND; ComponentLink1Description: Datasheet; ComponentLink1URL: http://www.nxp.com/documents/data_sheet/PMV48XP.pdf; ComponentLink2Description: Digi-Key Listing; ComponentLink2URL: http://www.digikey.com/product-detail/en/PMV48XP,215/568-7579-2-ND/2744664; Price: 0.081; Type: MOSFET P-Channel, Metal Oxide; Device Package: TO-236-3, SC-59, SOT-23-3; Drain to Source Voltage (Vdss): 20V; Features: Logic Level Gate
footprint NXP SOT-23-3 TO-236AB
pins: 1 G, 2 D, 3 S

## PMV50UPE,215
designator IC?
MOSFET P-CH 20V 3.2A TO-236AB; Manufacturer: NXP Semiconductors; Rds On (Max) at Id, Vgs: 66 mOhm @ 3.2A, 4.5V; Vgs(th) (Max) at Id: 900mV @ 250uA; Gate Charge (Qg): 15.7nC @ 4.5V; Input Capacitance (Ciss) at Vds: 24pF @ 10V; Power - Max: 500mW; Current Continuous Drain: 3.2A (Ta); Part Number: PMV50UPE,215; PartId: 8174; Supplier 1: Digi-Key; Supplier Part Number 1: 568-10836-2-ND; ComponentLink1Description: Datasheet; ComponentLink1URL: http://www.nxp.com/documents/data_sheet/PMV50UPE.pdf; ComponentLink2Description: Digi-Key Listing; ComponentLink2URL: http://www.digikey.com/product-detail/en/PMV50UPE,215/568-10836-2-ND/3679494; Price: 0.1395; Type: MOSFET P-Channel, Metal Oxide; Device Package: TO-236-3, SC-59, SOT-23-3; Drain to Source Voltage (Vdss): 20V; Features: Standard
footprint NXP SOT-23-3 TO-236AB
pins: 1 G, 2 D, 3 S

## PMV50XPR
designator IC?
MOSFET P-CH 20V SOT23; Manufacturer: NXP Semiconductors; Rds On (Max) at Id, Vgs: 60 mOhm @ 3.6A, 4.5V; Vgs(th) (Max) at Id: 900mV @ 250uA; Gate Charge (Qg): 12nC @ 4.5V; Input Capacitance (Ciss) at Vds: 744pF @ 20V; Power - Max: 490mW; Current Continuous Drain: 3.6A (Ta); Part Number: PMV50XPR; PartId: 8173; Supplier 1: Digi-Key; Supplier Part Number 1: 568-12595-2-ND; ComponentLink1Description: Datasheet; ComponentLink1URL: http://www.nxp.com/documents/data_sheet/PMV50XP.pdf; ComponentLink2Description: Digi-Key Listing; ComponentLink2URL: http://www.digikey.com/product-detail/en/PMV50XPR/568-12595-2-ND/5395798; Price: 0.1049; Type: MOSFET P-Channel, Metal Oxide; Device Package: TO-236-3, SC-59, SOT-23-3; Drain to Source Voltage (Vdss): 20V; Features: Standard
footprint NXP SOT-23-3 TO-236AB
pins: 1 G, 2 D, 3 S

## PMV65XP,215
designator IC?
MOSFET P-CH 20V 2.8A SOT-23; Manufacturer: NXP Semiconductors; Rds On (Max) at Id, Vgs: 74 mOhm @ 2.8A, 4.5V; Vgs(th) (Max) at Id: 900mV @ 250uA; Gate Charge (Qg): 7.7nC @ 4.5V; Input Capacitance (Ciss) at Vds: 744pF @ 20V; Power - Max: 480mW; Current Continuous Drain: 2.8A (Ta); Part Number: PMV65XP,215; PartId: 8175; Supplier 1: Digi-Key; Supplier Part Number 1: 568-2358-2-ND; ComponentLink1Description: Datasheet; ComponentLink1URL: http://www.nxp.com/documents/data_sheet/PMV65XP.pdf; ComponentLink2Description: Digi-Key Listing; ComponentLink2URL: http://www.digikey.com/product-detail/en/PMV65XP,215/568-2358-2-ND/949643; Price: 0.127; Type: MOSFET P-Channel, Metal Oxide; Device Package: TO-236-3, SC-59, SOT-23-3; Drain to Source Voltage (Vdss): 20V; Features: Standard
footprint NXP SOT-23-3 TO-236AB
pins: 1 G, 2 D, 3 S

## PMV160UP,215
designator IC?
MOSFET P-CH 20V 1.2A TO-236AB; Manufacturer: NXP Semiconductors; Rds On (Max) at Id, Vgs: 210 mOhm @ 1.2A, 4.5V; Vgs(th) (Max) at Id: 950mV @ 250uA; Gate Charge (Qg): 4nC @ 4.5V; Input Capacitance (Ciss) at Vds: 365pF @ 10V; Power - Max: 335mW; Current Continuous Drain: 1.2A (Ta); Part Number: PMV160UP,215; PartId: 8180; Supplier 1: Digi-Key; Supplier Part Number 1: 568-10320-2-ND; ComponentLink1Description: Datasheet; ComponentLink1URL: http://www.nxp.com/documents/data_sheet/PMV160UP.pdf; ComponentLink2Description: Digi-Key Listing; ComponentLink2URL: http://www.digikey.com/product-detail/en/PMV160UP,215/568-10320-2-ND/2780255; Price: 0.0792; Type: MOSFET P-Channel, Metal Oxide; Device Package: TO-236-3, SC-59, SOT-23-3; Drain to Source Voltage (Vdss): 20V; Features: Standard
footprint NXP SOT-23-3 TO-236AB
pins: 1 G, 2 D, 3 S

## PMV250EPEAR
designator IC?
MOSFET P-CH 40V SOT23; Manufacturer: NXP Semiconductors; Rds On (Max) at Id, Vgs: 240 mOhm @ 1.3A, 10V; Vgs(th) (Max) at Id: 2.5V @ 250uA; Gate Charge (Qg): 6nC @ 10V; Input Capacitance (Ciss) at Vds: 450pF @ 20V; Power - Max: 480mW; Current Continuous Drain: 1.5A (Ta); Part Number: PMV250EPEAR; PartId: 8176; Supplier 1: Digi-Key; Supplier Part Number 1: 568-12589-2-ND; ComponentLink1Description: Datasheet; ComponentLink1URL: http://www.nxp.com/documents/data_sheet/PMV250EPEA.pdf; ComponentLink2Description: Digi-Key Listing; ComponentLink2URL: http://www.digikey.com/product-detail/en/PMV250EPEAR/568-12589-2-ND/5395794; Price: 0.0819; Type: MOSFET P-Channel, Metal Oxide; Device Package: TO-236-3, SC-59, SOT-23-3; Drain to Source Voltage (Vdss): 40V; Features: Logic Level Gate
footprint NXP SOT-23-3 TO-236AB
pins: 1 G, 2 D, 3 S

## ZVP0545GTA
designator IC?
MOSFET P-CH 450V 0.075A SOT223; Manufacturer: Diodes Incorporated; Rds On (Max) at Id, Vgs: 150 Ohm @ 50mA, 10V; Vgs(th) (Max) at Id: 4.5V @ 1mA; Input Capacitance (Ciss) at Vds: 120pF @ 25V; Power - Max: 2W; Current Continuous Drain: 75mA (Ta); Part Number: ZVP0545GTA; PartId: 8211; Supplier 1: Digi-Key; Supplier Part Number 1: ZVP0545GTR-ND; ComponentLink1Description: Datasheet; ComponentLink1URL: http://www.diodes.com/_files/datasheets/ZVP0545G.pdf; ComponentLink2Description: Digi-Key Listing; ComponentLink2URL: http://www.digikey.com/product-detail/en/ZVP0545GTA/ZVP0545GTR-ND/307991; Price: 0.378; Type: MOSFET P-Channel, Metal Oxide; Device Package: TO-261-4, TO-261AA; Gate Charge (Qg): -; Drain to Source Voltage (Vdss): 450V; Features: Standard
footprint DIODES SOT-223
pins: 1 G, 2 D, 3 S, 4 D

## ZVP2106GTA
designator IC?
MOSFET P-CH 60V 450MA SOT223; Manufacturer: Diodes Incorporated; Rds On (Max) at Id, Vgs: 5 Ohm @ 500mA, 10V; Vgs(th) (Max) at Id: 3.5V @ 1mA; Input Capacitance (Ciss) at Vds: 100pF @ 18V; Power - Max: 2W; Current Continuous Drain: 450mA (Ta); Part Number: ZVP2106GTA; PartId: 8214; Supplier 1: Digi-Key; Supplier Part Number 1: ZVP2106GTR-ND; ComponentLink1Description: Datasheet; ComponentLink1URL: http://www.diodes.com/_files/datasheets/ZVP2106G.pdf; ComponentLink2Description: Digi-Key Listing; ComponentLink2URL: http://www.digikey.com/product-detail/en/ZVP2106GTA/ZVP2106GTR-ND/152494; Price: 0.45; Type: MOSFET P-Channel, Metal Oxide; Device Package: TO-261-4, TO-261AA; Gate Charge (Qg): -; Drain to Source Voltage (Vdss): 60V; Features: Standard
footprint DIODES SOT-223
pins: 1 G, 2 D, 3 S, 4 D

## ZVP2110GTA
designator IC?
MOSFET P-CH 100V 0.31A SOT223; Manufacturer: Diodes Incorporated; Rds On (Max) at Id, Vgs: 8 Ohm @ 375mA, 10V; Vgs(th) (Max) at Id: 3.5V @ 1mA; Input Capacitance (Ciss) at Vds: 100pF @ 25V; Power - Max: 2W; Current Continuous Drain: 310mA (Ta); Part Number: ZVP2110GTA; PartId: 8215; Supplier 1: Digi-Key; Supplier Part Number 1: ZVP2110GTR-ND; ComponentLink1Description: Datasheet; ComponentLink1URL: http://www.diodes.com/_files/datasheets/ZVP2110G.pdf; ComponentLink2Description: Digi-Key Listing; ComponentLink2URL: http://www.digikey.com/product-detail/en/ZVP2110GTA/ZVP2110GTR-ND/152496; Price: 0.45; Type: MOSFET P-Channel, Metal Oxide; Device Package: TO-261-4, TO-261AA; Gate Charge (Qg): -; Drain to Source Voltage (Vdss): 100V; Features: Standard
footprint DIODES SOT-223
pins: 1 G, 2 D, 3 S, 4 D

## ZVP2120GTA
designator IC?
MOSFET P-CH 200V 0.2A SOT223; Manufacturer: Diodes Incorporated; Rds On (Max) at Id, Vgs: 25 Ohm @ 150mA, 10V; Vgs(th) (Max) at Id: 3.5V @ 1mA; Input Capacitance (Ciss) at Vds: 100pF @ 25V; Power - Max: 2W; Current Continuous Drain: 200mA (Ta); Part Number: ZVP2120GTA; PartId: 8206; Supplier 1: Digi-Key; Supplier Part Number 1: ZVP2120GTR-ND; ComponentLink1Description: Datasheet; ComponentLink1URL: http://www.diodes.com/_files/datasheets/ZVP2120G.pdf; ComponentLink2Description: Digi-Key Listing; ComponentLink2URL: http://www.digikey.com/product-detail/en/ZVP2120GTA/ZVP2120GTR-ND/1767263; Price: 0.288; Type: MOSFET P-Channel, Metal Oxide; Device Package: TO-261-4, TO-261AA; Gate Charge (Qg): -; Drain to Source Voltage (Vdss): 200V; Features: Standard
footprint DIODES SOT-223
pins: 1 G, 2 D, 3 S, 4 D

## ZVP4424GTA
designator IC?
MOSFET P-CH 240V 0.48A SOT223; Manufacturer: Diodes Incorporated; Rds On (Max) at Id, Vgs: 9 Ohm @ 200mA, 10V; Vgs(th) (Max) at Id: 2V @ 1mA; Input Capacitance (Ciss) at Vds: 200pF @ 25V; Power - Max: 2.5W; Current Continuous Drain: 480mA (Ta); Part Number: ZVP4424GTA; PartId: 8216; Supplier 1: Digi-Key; Supplier Part Number 1: ZVP4424GTR-ND; ComponentLink1Description: Datasheet; ComponentLink1URL: http://www.diodes.com/_files/datasheets/ZVP4424G.pdf; ComponentLink2Description: Digi-Key Listing; ComponentLink2URL: http://www.digikey.com/product-detail/en/ZVP4424GTA/ZVP4424GTR-ND/243294; Price: 0.4725; Type: MOSFET P-Channel, Metal Oxide; Device Package: TO-261-4, TO-261AA; Gate Charge (Qg): -; Drain to Source Voltage (Vdss): 240V; Features: Standard
footprint DIODES SOT-223
pins: 1 G, 2 D, 3 S, 4 D

## ZVP4525GTA
designator IC?
MOSFET P-CH 250V 0.265A SOT223; Manufacturer: Diodes Incorporated; Rds On (Max) at Id, Vgs: 14 Ohm @ 200mA, 10V; Vgs(th) (Max) at Id: 2V @ 1mA; Gate Charge (Qg): 3.45nC @ 10V; Input Capacitance (Ciss) at Vds: 73pF @ 25V; Power - Max: 2W; Current Continuous Drain: 265mA (Ta); Part Number: ZVP4525GTA; PartId: 8205; Supplier 1: Digi-Key; Supplier Part Number 1: ZVP4525GTR-ND; ComponentLink1Description: Datasheet; ComponentLink1URL: http://www.diodes.com/_files/datasheets/ZVP4525G.pdf; ComponentLink2Description: Digi-Key Listing; ComponentLink2URL: http://www.digikey.com/product-detail/en/ZVP4525GTA/ZVP4525GTR-ND/385971; Price: 0.28; Type: MOSFET P-Channel, Metal Oxide; Device Package: TO-261-4, TO-261AA; Drain to Source Voltage (Vdss): 250V; Features: Standard
footprint DIODES SOT-223
pins: 1 G, 2 D, 3 S, 4 D

## ZXMP3A16GTA
designator IC?
MOSFET P-CH 30V 4.6A SOT223; Manufacturer: Diodes Incorporated; Rds On (Max) at Id, Vgs: 45 mOhm @ 4.2A, 10V; Vgs(th) (Max) at Id: 1V @ 250uA; Gate Charge (Qg): 29.6nC @ 10V; Input Capacitance (Ciss) at Vds: 1022pF @ 15V; Power - Max: 2W; Current Continuous Drain: 5.4A (Ta); Part Number: ZXMP3A16GTA; PartId: 8213; Supplier 1: Digi-Key; Supplier Part Number 1: ZXMP3A16GTR-ND; ComponentLink1Description: Datasheet; ComponentLink1URL: http://www.diodes.com/_files/datasheets/ZXMP3A16G.pdf; ComponentLink2Description: Digi-Key Listing; ComponentLink2URL: http://www.digikey.com/product-detail/en/ZXMP3A16GTA/ZXMP3A16GTR-ND/560628; Price: 0.405; Type: MOSFET P-Channel, Metal Oxide; Device Package: TO-261-4, TO-261AA; Drain to Source Voltage (Vdss): 30V; Features: Standard
footprint DIODES SOT-223
pins: 1 G, 2 D, 3 S, 4 D